# Altium schematic symbol library PowerManagementG.SchLib: 10 symbols
Pins are listed as number, name and electrical type; pins without a type are passive.

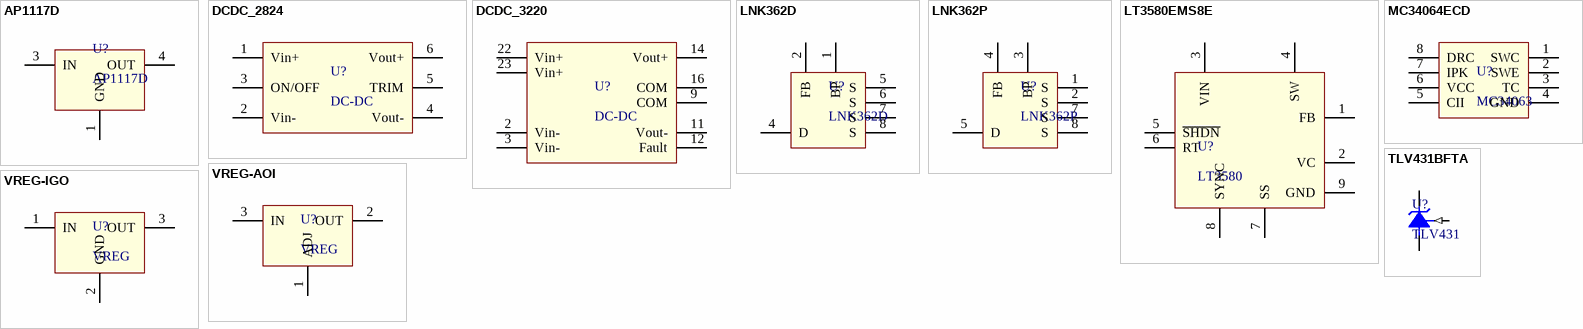
[diagram p0: symbols AP1117D to VREG-IGO]

## AP1117D
designator U?
Low Dropout Regulator
footprint TO-252 (D-PAK/TO-252-AA; 3 Leads (1 Cropped); Body 10.1 (inc. leads) x 6.6 mm (LxW max))
pins: 1 GND (power), 3 IN (power), 4 OUT (power)

## DCDC_2824
designator U?, comment DC-DC
DC-DC converter brick, DIP 28mm x 24mm
pins: 1 Vin+, 2 Vin-, 3 ON/OFF, 4 Vout-, 5 TRIM, 6 Vout+

## DCDC_3220
designator U?, comment DC-DC
DC-DC converter brick, DIP 32mm x 20mm
pins: 2 Vin-, 3 Vin-, 9 COM, 11 Vout-, 12 Fault, 14 Vout+, 16 COM, 22 Vin+, 23 Vin+

## LNK362D
designator U?
Offline Flyback Switcher
footprint SOIC127P600-8N (SOIC, 8-Leads, Body 4.9x3.9mm, Pitch 1.27mm, IPC Medium Density)
pins: 1 BP, 2 FB, 4 D, 5 S, 6 S, 7 S, 8 S

## LNK362P
designator U?
Offline Flyback Switcher
footprint DIP-8 (DIP; 8 Leads; Row Spacing 7.62 mm; Pitch 2.54 mm)
pins: 1 S, 2 S, 3 BP, 4 FB, 5 D, 7 S, 8 S

## LT3580EMS8E
designator U?, comment LT3580
Boost/inverting DC/DC converter
pins: 1 FB, 2 VC, 3 VIN, 4 SW, 5 ~{SHDN}, 6 RT, 7 SS, 8 SYNC, 9 GND

## MC34064ECD
designator U?, comment MC34063
DC/DC converter
footprint SO8 (Small Outline; 8 Leads; Body Width 3.9 mm; Pitch 1.27 mm)
pins: 1 SWC, 2 SWE, 3 TC, 4 GND, 5 CII, 6 VCC, 7 IPK, 8 DRC

## TLV431BFTA
designator U?, comment TLV431
Adjustable shunt regulator
footprint SOT23-3N (SOT23, 3-Leads, Body 2.9x1.3mm, Pitch 0.95mm, Lead Span 2.5mm, IPC Medium Density)
pins: 1 REF (in), 2 CATHODE, 3 ANODE

## VREG-AOI
designator U?, comment VREG
Generic 3-terminal voltage regulator
footprint TO-220F
pins: 1 ADJ, 2 OUT, 3 IN

## VREG-IGO
designator U?, comment VREG
Generic 3-terminal voltage regulator
footprint TO-220AB (TO, Thru-Hole, Vertical, Heatsink Mounted; 3 In-Line Leads; Pitch 2.54 mm)
pins: 1 IN, 2 GND, 3 OUT